# Altium schematic symbol library Resistor_0805.SchLib: 259 symbols (part 2 of 6)
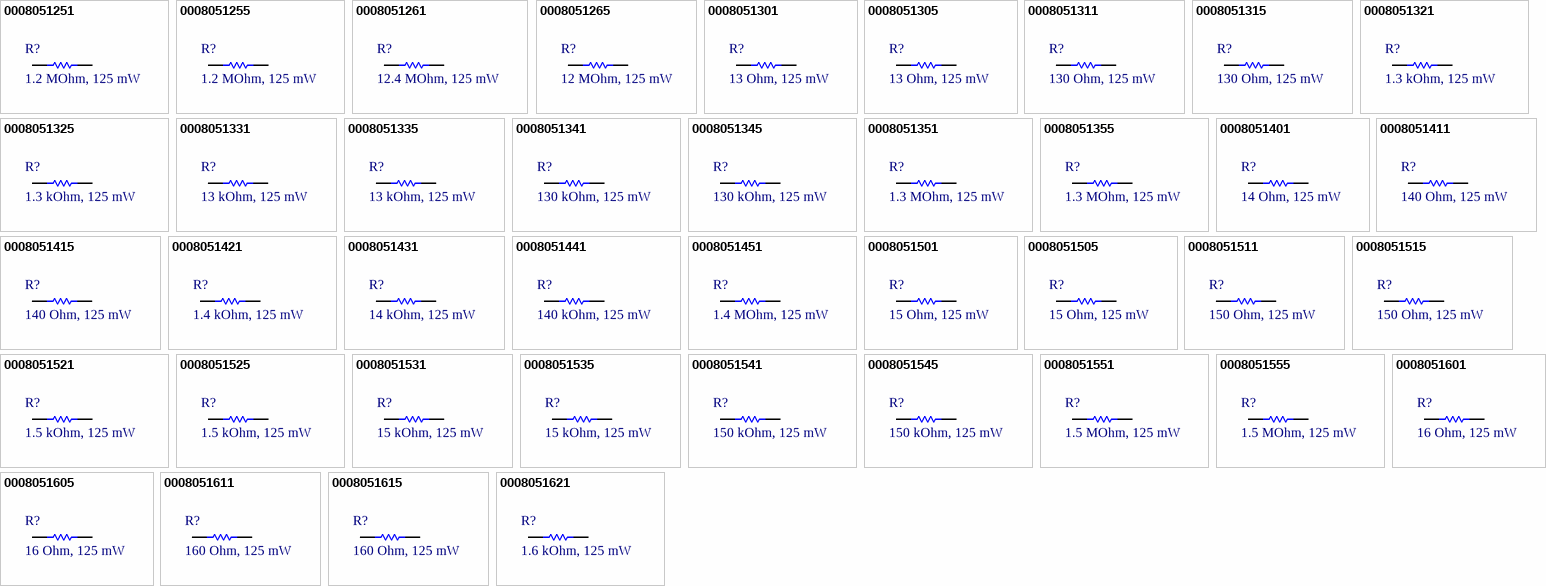
[diagram p7: symbols 0008051251 to 0008051621]

## 0008051301
designator R?, comment 13 Ohm, 125 mW
RES, size 0805, 13 Ohm, 1/8 W, 1%; Manufacturer: Vishay Dale; Manufacturer Part Number: CRCW080513R0FKEA; Rated Power: 125 mW; Resistance: 13 Ohm; Value: 13 Ohm; Tolerance: +/-1%; Supplier 1 URL: https://www.mouser.vn/ProductDetail/Vishay-Dale/CRCW080513R0FKTA?qs=ZOFh%252BZEbFTD7SfeHjm78bA%3D%3D; Supplier 2 URL: https://www.digikey.com/en/products/detail/vishay-dale/CRCW080513R0FKEA/1175421; Supplier 3 URL: https://www.mouser.vn/ProductDetail/Vishay-Dale/CRCW080513R0FKTA?qs=ZOFh%252BZEbFTD7SfeHjm78bA%3D%3D; Packaging: Tape and Reel; Supplier 1: Mouser; Supplier 1 Part Number: 71-CRCW0805-13; Supplier 2: Digi-Key; Supplier 2 Part Number: 541-13.0CTR-ND; Supplier 3: thegioiic; Supplier 3 Part Number: OEM; ComponentLink1Description: Datasheet; ComponentLink1URL: https://www.vishay.com/docs/20035/dcrcwe3.pdf; Mount: SMD/SMT; Operating Temperature Max: + 85 C; Operating Temperature Min: - 40 C; Package / Case: 0805; LCSC Part #: N/A
footprint RES_0805 (Chip Resistor, 2-Leads, Body 2.05x1.25mm, IPC Medium Density)
simulation model R_Resistor_Default (Model Description)
signal-integrity model Resistor Model
pins: 1, 2

## 0008051305
designator R?, comment 13 Ohm, 125 mW
RES, size 0805, 13 Ohm, 1/8 W, 5%; Manufacturer: Vishay Dale; Manufacturer Part Number: CRCW080513R0JNEA; Rated Power: 125 mW; Resistance: 13 Ohm; Value: 13 Ohm; Tolerance: +/-5%; Supplier 1 URL: https://www.mouser.vn/ProductDetail/Vishay-Dale/CRCW080513R0JNEA?qs=0y7Riw94L4g6KLaYV7LaYA%3D%3D; Supplier 2 URL: https://www.digikey.com/en/products/detail/vishay-dale/CRCW080513R0JNEA/1175153; Supplier 3 URL: https://www.thegioiic.com/dien-tro-13-ohm-0805-5-; Packaging: Tape and Reel; Supplier 1: Mouser; Supplier 1 Part Number: 71-CRCW080513R0JNEA; Supplier 2: Digi-Key; Supplier 2 Part Number: 541-13.0CTR-ND; Supplier 3: thegioiic; Supplier 3 Part Number: OEM; ComponentLink1Description: Datasheet; ComponentLink1URL: https://www.vishay.com/docs/20035/dcrcwe3.pdf; Mount: SMD/SMT; Operating Temperature Max: + 85 C; Operating Temperature Min: - 40 C; Package / Case: 0805; LCSC Part #: N/A
footprint RES_0805 (Chip Resistor, 2-Leads, Body 2.05x1.25mm, IPC Medium Density)
simulation model R_Resistor_Default (Model Description)
signal-integrity model Resistor Model
pins: 1, 2

## 0008051311
designator R?, comment 130 Ohm, 125 mW
RES, size 0805, 130 Ohm, 1/8 W, 1%; Manufacturer: Vishay Dale; Manufacturer Part Number: CRCW0805130RFKEA; Rated Power: 125 mW; Resistance: 130 Ohm; Value: 130 Ohm; Tolerance: +/-1%; Supplier 1 URL: https://www.mouser.vn/ProductDetail/Vishay-Dale/CRCW0805130RFKTA?qs=giVM%252B3aTMKxKqHz68BaXog%3D%3D; Supplier 2 URL: https://www.digikey.com/en/products/detail/vishay-dale/CRCW0805130RFKEA/1175535; Supplier 3 URL: N/A; Packaging: Tape and Reel; Supplier 1: Mouser; Supplier 1 Part Number: 71-CRCW0805-130; Supplier 2: Digi-Key; Supplier 2 Part Number: 541-130CTR-ND; Supplier 3: thegioiic; Supplier 3 Part Number: OEM; ComponentLink1Description: Datasheet; ComponentLink1URL: https://www.vishay.com/docs/20035/dcrcwe3.pdf; Mount: SMD/SMT; Operating Temperature Max: + 85 C; Operating Temperature Min: - 40 C; Package / Case: 0805; LCSC Part #: N/A
footprint RES_0805 (Chip Resistor, 2-Leads, Body 2.05x1.25mm, IPC Medium Density)
simulation model R_Resistor_Default (Model Description)
signal-integrity model Resistor Model
pins: 1, 2

## 0008051315
designator R?, comment 130 Ohm, 125 mW
RES, size 0805, 130 Ohm, 1/8 W, 5%; Manufacturer: Vishay Dale; Manufacturer Part Number: CRCW0805130RFKEA; Rated Power: 125 mW; Resistance: 130 Ohm; Value: 130 Ohm; Tolerance: +/-5%; Supplier 1 URL: https://www.mouser.vn/ProductDetail/Vishay-Dale/CRCW0805130RJNEA?qs=0y7Riw94L4hSzyuZjO1BEg%3D%3D; Supplier 2 URL: https://www.digikey.com/en/products/detail/vishay-dale/CRCW0805130RJNEA/1175177; Supplier 3 URL: https://www.thegioiic.com/dien-tro-130-ohm-0805-5; Packaging: Tape and Reel; Supplier 1: Mouser; Supplier 1 Part Number: 71-CRCW0805130RJNEA; Supplier 2: Digi-Key; Supplier 2 Part Number: 541-130ATR-ND; Supplier 3: thegioiic; Supplier 3 Part Number: OEM; ComponentLink1Description: Datasheet; ComponentLink1URL: https://www.vishay.com/docs/20035/dcrcwe3.pdf; Mount: SMD/SMT; Operating Temperature Max: + 85 C; Operating Temperature Min: - 40 C; Package / Case: 0805; LCSC Part #: N/A
footprint RES_0805 (Chip Resistor, 2-Leads, Body 2.05x1.25mm, IPC Medium Density)
simulation model R_Resistor_Default (Model Description)
signal-integrity model Resistor Model
pins: 1, 2

## 0008051321
designator R?, comment 1.3 kOhm, 125 mW
RES, size 0805, 1.3 kOhm, 1/8 W, 1%; Manufacturer: Vishay Dale; Manufacturer Part Number: CRCW08051K30FKEA; Rated Power: 125 mW; Tolerance: +/-1%; Resistance: 1.3 kOhm; Supplier 1 URL: https://www.mouser.vn/ProductDetail/Vishay-Dale/CRCW08051K30FKEA?qs=DZvKvnD5UYWy1USUvWuhZQ%3D%3D; Supplier 2 URL: https://www.digikey.com/en/products/detail/vishay-dale/CRCW08051K30FKEA/1175649; Supplier 3 URL: N/A; Value: 1.3 kOhm; Packaging: Tape and Reel; Supplier 1: Mouser; Supplier 1 Part Number: 71-CRCW0805-1.3K-E3; Supplier 2: Digi-Key; Supplier 2 Part Number: 541-1.30KCTR-ND; Supplier 3: thegioiic; Supplier 3 Part Number: OEM; ComponentLink1Description: Datasheet; ComponentLink1URL: https://www.vishay.com/docs/20035/dcrcwe3.pdf; Mount: SMD/SMT; Operating Temperature Max: + 85 C; Operating Temperature Min: - 40 C; Package / Case: 0805; LCSC Part #: N/A
footprint RES_0805 (Chip Resistor, 2-Leads, Body 2.05x1.25mm, IPC Medium Density)
simulation model R_Resistor_Default (Model Description)
signal-integrity model Resistor Model
pins: 1, 2

## 0008051325
designator R?, comment 1.3 kOhm, 125 mW
RES, size 0805, 1.3 kOhm, 1/8 W, 5%; Manufacturer: Vishay Dale; Manufacturer Part Number: CRCW08051K30JNEA; Rated Power: 125 mW; Tolerance: +/-5%; Resistance: 1.3 kOhm; Supplier 1 URL: https://www.mouser.vn/ProductDetail/Vishay-Dale/CRCW08051K30JNEA?qs=DZvKvnD5UYXM63M39f9SOw%3D%3D; Supplier 2 URL: https://www.digikey.com/en/products/detail/vishay-dale/CRCW08051K30JNEA/1175201; Supplier 3 URL: https://www.thegioiic.com/dien-tro-1-3-kohm-0805-5; Value: 1.3 kOhm; Packaging: Tape and Reel; Supplier 1: Mouser; Supplier 1 Part Number: 71-CRCW08051K30JNEA; Supplier 2: Digi-Key; Supplier 2 Part Number: 541-1.3KATR-ND; Supplier 3: thegioiic; Supplier 3 Part Number: OEM; ComponentLink1Description: Datasheet; ComponentLink1URL: https://www.vishay.com/docs/20035/dcrcwe3.pdf; Mount: SMD/SMT; Operating Temperature Max: + 85 C; Operating Temperature Min: - 40 C; Package / Case: 0805; LCSC Part #: N/A
footprint RES_0805 (Chip Resistor, 2-Leads, Body 2.05x1.25mm, IPC Medium Density)
simulation model R_Resistor_Default (Model Description)
signal-integrity model Resistor Model
pins: 1, 2

## 0008051331
designator R?, comment 13 kOhm, 125 mW
RES, size 0805, 13 kOhm, 1/8 W, 1%; Manufacturer: Vishay Dale; Manufacturer Part Number: CRCW080513K0FKEA; Rated Power: 125 mW; Resistance: 13 kOhm; Value: 13 kOhm; Tolerance: +/-1%; Supplier 1 URL: https://www.mouser.vn/ProductDetail/Vishay-Dale/CRCW080513K0FKEAC?qs=E3Y5ESvWgWPE3tvm%252BBlG8w%3D%3D; Supplier 2 URL: https://www.digikey.com/en/products/detail/vishay-dale/CRCW080513K0FKEA/1175763; Supplier 3 URL: https://www.mouser.vn/ProductDetail/Vishay-Dale/CRCW08051K30FKEA?qs=DZvKvnD5UYWy1USUvWuhZQ%3D%3D; Packaging: Tape and Reel; Supplier 1: Mouser; Supplier 1 Part Number: 71-CRCW080513K0FKEAC; Supplier 2: Digi-Key; Supplier 2 Part Number: 541-13.0KCTR-ND; Supplier 3: thegioiic; Supplier 3 Part Number: OEM; ComponentLink1Description: Datasheet; ComponentLink1URL: https://www.vishay.com/docs/20035/dcrcwe3.pdf; Mount: SMD/SMT; Operating Temperature Max: + 85 C; Operating Temperature Min: - 40 C; Package / Case: 0805; LCSC Part #: N/A
footprint RES_0805 (Chip Resistor, 2-Leads, Body 2.05x1.25mm, IPC Medium Density)
simulation model R_Resistor_Default (Model Description)
signal-integrity model Resistor Model
pins: 1, 2

## 0008051335
designator R?, comment 13 kOhm, 125 mW
RES, size 0805, 13 kOhm, 1/8 W, 5%; Manufacturer: Vishay Dale; Manufacturer Part Number: CRCW080513K0JNEA; Rated Power: 125 mW; Resistance: 13 kOhm; Value: 13 kOhm; Tolerance: +/-5%; Supplier 1 URL: https://www.mouser.vn/ProductDetail/Vishay-Dale/CRCW080513K0JNEA?qs=0y7Riw94L4jwZQ%2FJsMqPzw%3D%3D; Supplier 2 URL: https://www.digikey.com/en/products/detail/vishay-dale/CRCW080513K0JNEA/1175225; Supplier 3 URL: https://www.thegioiic.com/dien-tro-13-kohm-0805-5; Packaging: Tape and Reel; Supplier 1: Mouser; Supplier 1 Part Number: 71-CRCW080513K0JNEA; Supplier 2: Digi-Key; Supplier 2 Part Number: 541-13KATR-ND; Supplier 3: thegioiic; Supplier 3 Part Number: OEM; ComponentLink1Description: Datasheet; ComponentLink1URL: https://www.vishay.com/docs/20035/dcrcwe3.pdf; Mount: SMD/SMT; Operating Temperature Max: + 85 C; Operating Temperature Min: - 40 C; Package / Case: 0805; LCSC Part #: N/A
footprint RES_0805 (Chip Resistor, 2-Leads, Body 2.05x1.25mm, IPC Medium Density)
simulation model R_Resistor_Default (Model Description)
signal-integrity model Resistor Model
pins: 1, 2

## 0008051341
designator R?, comment 130 kOhm, 125 mW
RES, size 0805, 130 kOhm, 1/8 W, 1%; Manufacturer: Vishay Dale; Manufacturer Part Number: CRCW0805130KFKEAC; Rated Power: 125 mW; Tolerance: +/-1%; Resistance: 130 kOhm; Supplier 1 URL: https://www.mouser.vn/ProductDetail/Vishay-Dale/CRCW0805130KFKEA?qs=0y7Riw94L4iHKWUxGOctIA%3D%3D; Supplier 2 URL: https://www.digikey.com/en/products/detail/vishay-dale/CRCW0805130KFKEAC/7922604; Supplier 3 URL: https://www.thegioiic.com/dien-tro-133-kohm-0805-1-; Value: 130 kOhm; Packaging: Tape and Reel; Supplier 1: Mouser; Supplier 1 Part Number: 71-CRCW0805-130K-E3; Supplier 2: Digi-Key; Supplier 2 Part Number: 541-CRCW0805130KFKEACTR-ND; Supplier 3: thegioiic; Supplier 3 Part Number: OEM; ComponentLink1Description: Datasheet; ComponentLink1URL: https://www.vishay.com/docs/28773/crcwce3.pdf; Mount: SMD/SMT; Operating Temperature Max: + 85 C; Operating Temperature Min: - 40 C; Package / Case: 0805; LCSC Part #: N/A
footprint RES_0805 (Chip Resistor, 2-Leads, Body 2.05x1.25mm, IPC Medium Density)
simulation model R_Resistor_Default (Model Description)
signal-integrity model Resistor Model
pins: 1, 2

## 0008051345
designator R?, comment 130 kOhm, 125 mW
RES, size 0805, 130 kOhm, 1/8 W, 5%; Manufacturer: Vishay Dale; Manufacturer Part Number: CRCW0805130KJNEA; Rated Power: 125 mW; Tolerance: +/-5%; Resistance: 130 kOhm; Supplier 1 URL: https://www.mouser.vn/ProductDetail/Vishay-Dale/CRCW0805130KJNEA?qs=0y7Riw94L4hrk%2FEo6puJGw%3D%3D; Supplier 2 URL: https://www.digikey.com/en/products/detail/vishay-dale/CRCW0805130KJNEA/1175249; Supplier 3 URL: https://www.thegioiic.com/dien-tro-130-kohm-0805-5; Value: 130 kOhm; Packaging: Tape and Reel; Supplier 1: Mouser; Supplier 1 Part Number: 71-CRCW0805130KJNEA; Supplier 2: Digi-Key; Supplier 2 Part Number: 541-130KATR-ND; Supplier 3: thegioiic; Supplier 3 Part Number: OEM; ComponentLink1Description: Datasheet; ComponentLink1URL: https://www.vishay.com/docs/20035/dcrcwe3.pdf; Mount: SMD/SMT; Operating Temperature Max: + 85 C; Operating Temperature Min: - 40 C; Package / Case: 0805; LCSC Part #: N/A
footprint RES_0805 (Chip Resistor, 2-Leads, Body 2.05x1.25mm, IPC Medium Density)
simulation model R_Resistor_Default (Model Description)
signal-integrity model Resistor Model
pins: 1, 2

## 0008051351
designator R?, comment 1.3 MOhm, 125 mW
RES, size 0805, 1.3 MOhm, 1/8 W, 1%; Manufacturer: Vishay Dale; Manufacturer Part Number: CRCW08051M30FKEA; Rated Power: 125 mW; Tolerance: +/-1%; Resistance: 1.3 MOhm; Supplier 1 URL: https://www.mouser.vn/ProductDetail/Vishay-Dale/CRCW08051M30FKEA?qs=1CkV0QOCgMqfDDw%2F4HOy0g%3D%3D; Supplier 2 URL: https://www.digikey.com/en/products/detail/vishay-dale/CRCW08051M30FKEA/1176028; Supplier 3 URL: N/A; Value: 1.3 MOhm; Packaging: Tape and Reel; Supplier 1: Mouser; Supplier 1 Part Number: 71-CRCW08051M30FKEA; Supplier 2: Digi-Key; Supplier 2 Part Number: 541-1.30MCTR-ND; Supplier 3: thegioiic; Supplier 3 Part Number: OEM; ComponentLink1Description: Datasheet; ComponentLink1URL: https://www.vishay.com/docs/20035/dcrcwe3.pdf; Mount: SMD/SMT; Operating Temperature Max: + 85 C; Operating Temperature Min: - 40 C; Package / Case: 0805; LCSC Part #: N/A
footprint RES_0805 (Chip Resistor, 2-Leads, Body 2.05x1.25mm, IPC Medium Density)
simulation model R_Resistor_Default (Model Description)
signal-integrity model Resistor Model
pins: 1, 2

## 0008051355
designator R?, comment 1.3 MOhm, 125 mW
RES, size 0805, 1.3 MOhm, 1/8 W, 5%; Manufacturer: Vishay Dale; Manufacturer Part Number: CRCW08051M30JNEAC; Rated Power: 125 mW; Tolerance: +/-5%; Resistance: 1.3 MOhm; Supplier 1 URL: https://www.mouser.vn/ProductDetail/Vishay-Dale/CRCW08051M30JNEA?qs=1CkV0QOCgMqStvDAyUDctQ%3D%3D; Supplier 2 URL: https://www.digikey.com/en/products/detail/vishay-dale/CRCW08051M30JNEAC/7923851; Supplier 3 URL: https://www.thegioiic.com/dien-tro-1-3-mohm-0805-5; Value: 1.3 MOhm; Packaging: Tape and Reel; Supplier 1: Mouser; Supplier 1 Part Number: 71-CRCW08051M30JNEA; Supplier 2: Digi-Key; Supplier 2 Part Number: CRCW08051M30JNEAC-ND; Supplier 3: thegioiic; Supplier 3 Part Number: OEM; ComponentLink1Description: Datasheet; ComponentLink1URL: https://www.vishay.com/docs/28773/crcwce3.pdf; Mount: SMD/SMT; Operating Temperature Max: + 85 C; Operating Temperature Min: - 40 C; Package / Case: 0805; LCSC Part #: N/A
footprint RES_0805 (Chip Resistor, 2-Leads, Body 2.05x1.25mm, IPC Medium Density)
simulation model R_Resistor_Default (Model Description)
signal-integrity model Resistor Model
pins: 1, 2

## 0008051401
designator R?, comment 14 Ohm, 125 mW
RES, size 0805, 14 Ohm, 1/8 W, 1%; Manufacturer: Vishay Dale; Manufacturer Part Number: CRCW080514R0FKEA; Rated Power: 125 mW; Resistance: 14 Ohm; Value: 14 Ohm; Tolerance: +/-1%; Supplier 1 URL: https://www.mouser.vn/ProductDetail/Vishay-Dale/CRCW080514R0FKEA?qs=bMjB6bAaLENYJ14k%252BREMxw%3D%3D; Supplier 2 URL: https://www.digikey.com/en/products/detail/vishay-dale/CRCW080514R0FKEA/1175424; Supplier 3 URL: N/A; Packaging: Tape and Reel; Supplier 1: Mouser; Supplier 1 Part Number: 71-CRCW080514R0FKEA; Supplier 2: Digi-Key; Supplier 2 Part Number: 541-14.0CTR-ND; Supplier 3: thegioiic; Supplier 3 Part Number: OEM; ComponentLink1Description: Datasheet; ComponentLink1URL: https://www.vishay.com/docs/20035/dcrcwe3.pdf; Mount: SMD/SMT; Operating Temperature Max: + 85 C; Operating Temperature Min: - 40 C; Package / Case: 0805; LCSC Part #: N/A
footprint RES_0805 (Chip Resistor, 2-Leads, Body 2.05x1.25mm, IPC Medium Density)
simulation model R_Resistor_Default (Model Description)
signal-integrity model Resistor Model
pins: 1, 2

## 0008051411
designator R?, comment 140 Ohm, 125 mW
RES, size 0805, 140 Ohm, 1/8 W, 1%; Manufacturer: Vishay Dale; Manufacturer Part Number: CRCW0805140RFKEA; Rated Power: 125 mW; Resistance: 140 Ohm; Value: 140 Ohm; Tolerance: +/-1%; Supplier 1 URL: https://www.mouser.vn/ProductDetail/Vishay-Dale/CRCW0805140RFKEA?qs=0y7Riw94L4jPO4%252BnYwmRgg%3D%3D; Supplier 2 URL: https://www.digikey.com/en/products/detail/vishay-dale/CRCW0805140RFKEA/1175538; Supplier 3 URL: N/A; Packaging: Tape and Reel; Supplier 1: Mouser; Supplier 1 Part Number: 71-CRCW0805-140-E3; Supplier 2: Digi-Key; Supplier 2 Part Number: 541-140CTR-ND; Supplier 3: thegioiic; Supplier 3 Part Number: OEM; ComponentLink1Description: Datasheet; ComponentLink1URL: https://www.vishay.com/docs/20035/dcrcwe3.pdf; Mount: SMD/SMT; Operating Temperature Max: + 85 C; Operating Temperature Min: - 40 C; Package / Case: 0805; LCSC Part #: N/A
footprint RES_0805 (Chip Resistor, 2-Leads, Body 2.05x1.25mm, IPC Medium Density)
simulation model R_Resistor_Default (Model Description)
signal-integrity model Resistor Model
pins: 1, 2

## 0008051415
designator R?, comment 140 Ohm, 125 mW
RES, size 0805, 140 Ohm, 1/8 W, 5%; Manufacturer: Vishay Dale; Manufacturer Part Number: CRCW0805140RJNTA; Rated Power: 125 mW; Resistance: 140 Ohm; Value: 140 Ohm; Tolerance: +/-5%; Supplier 1 URL: N/A; Supplier 2 URL: https://www.digikey.com/en/products/detail/vishay-dale/CRCW0805140RJNTA/5073823?s=N4IgjCBcoExaBjKAzAhgGwM4FMA0IB7KAbXAAYAOAdgE4QBdfABwBcoQBlFgJwEsA7AOYgAvvgDM8EEkhoseQiRAwArGUmMQrdlz5DR%2BMDBoRo0lBhz4ikUuJriYFBszaROPAcLHLKKqTJyVoq24AAsZAAEAPIAFgC2mC5abiAAqvy8LNHIALLYqJgArtzYBiAAtKaIFvLWSiphEPQirUA; Supplier 3 URL: N/A; Packaging: Tape and Reel; Supplier 1: Mouser; Supplier 1 Part Number: N/A; Supplier 2: Digi-Key; Supplier 2 Part Number: CRCW0805140RJNTA-ND; Supplier 3: thegioiic; Supplier 3 Part Number: OEM; ComponentLink1Description: Datasheet; ComponentLink1URL: https://www.vishay.com/docs/20008/dcrcw.pdf; Mount: SMD/SMT; Operating Temperature Max: + 85 C; Operating Temperature Min: - 40 C; Package / Case: 0805; LCSC Part #: N/A
footprint RES_0805 (Chip Resistor, 2-Leads, Body 2.05x1.25mm, IPC Medium Density)
simulation model R_Resistor_Default (Model Description)
signal-integrity model Resistor Model
pins: 1, 2

## 0008051421
designator R?, comment 1.4 kOhm, 125 mW
RES, size 0805, 1.4 kOhm, 1/8 W, 1%; Manufacturer: Vishay Dale; Manufacturer Part Number: CRCW08051K40FKEA; Rated Power: 125 mW; Tolerance: +/-1%; Resistance: 1.4 kOhm; Supplier 1 URL: https://www.mouser.vn/ProductDetail/Vishay-Dale/CRCW08051K40FKEAC?qs=E3Y5ESvWgWMroF%2FACx5xCA%3D%3D; Supplier 2 URL: https://www.digikey.com/en/products/detail/vishay-dale/CRCW08051K40FKEA/1175652; Supplier 3 URL: N/A; Value: 1.4 kOhm; Packaging: Tape and Reel; Supplier 1: Mouser; Supplier 1 Part Number: 71-CRCW08051K40FKEAC; Supplier 2: Digi-Key; Supplier 2 Part Number: 541-1.40KCTR-ND; Supplier 3: thegioiic; Supplier 3 Part Number: OEM; ComponentLink1Description: Datasheet; ComponentLink1URL: https://www.vishay.com/docs/20035/dcrcwe3.pdf; Mount: SMD/SMT; Operating Temperature Max: + 85 C; Operating Temperature Min: - 40 C; Package / Case: 0805; LCSC Part #: N/A
footprint RES_0805 (Chip Resistor, 2-Leads, Body 2.05x1.25mm, IPC Medium Density)
simulation model R_Resistor_Default (Model Description)
signal-integrity model Resistor Model
pins: 1, 2

## 0008051431
designator R?, comment 14 kOhm, 125 mW
RES, size 0805, 14 kOhm, 1/8 W, 1%; Manufacturer: Vishay Dale; Manufacturer Part Number: CRCW080514K0FKEA; Rated Power: 125 mW; Resistance: 14 kOhm; Value: 14 kOhm; Tolerance: +/-1%; Supplier 1 URL: https://www.mouser.vn/ProductDetail/Vishay-Dale/CRCW080514K0FKTA?qs=y%252BxuShyeZ0O8roe3MhXm6Q%3D%3D; Supplier 2 URL: https://www.digikey.com/en/products/detail/vishay-dale/CRCW080514K0FKEA/1175766; Supplier 3 URL: N/A; Packaging: Tape and Reel; Supplier 1: Mouser; Supplier 1 Part Number: 71-CRCW0805-14K; Supplier 2: Digi-Key; Supplier 2 Part Number: 541-14.0KCTR-ND; Supplier 3: thegioiic; Supplier 3 Part Number: OEM; ComponentLink1Description: Datasheet; ComponentLink1URL: https://www.vishay.com/docs/20035/dcrcwe3.pdf; Mount: SMD/SMT; Operating Temperature Max: + 85 C; Operating Temperature Min: - 40 C; Package / Case: 0805; LCSC Part #: N/A
footprint RES_0805 (Chip Resistor, 2-Leads, Body 2.05x1.25mm, IPC Medium Density)
simulation model R_Resistor_Default (Model Description)
signal-integrity model Resistor Model
pins: 1, 2

## 0008051441
designator R?, comment 140 kOhm, 125 mW
RES, size 0805, 140 kOhm, 1/8 W, 1%; Manufacturer: Vishay Dale; Manufacturer Part Number: CRCW0805140KFKEA; Rated Power: 125 mW; Tolerance: +/-1%; Resistance: 140 kOhm; Supplier 1 URL: https://www.mouser.vn/ProductDetail/Vishay-Dale/CRCW0805140KFKEA?qs=0y7Riw94L4gtbV%2FoXTvwTw%3D%3D; Supplier 2 URL: https://www.digikey.com/en/products/detail/vishay-dale/CRCW0805140KFKEA/1175880; Supplier 3 URL: N/A; Value: 140 kOhm; Packaging: Tape and Reel; Supplier 1: Mouser; Supplier 1 Part Number: 71-CRCW0805-140K-E3; Supplier 2: Digi-Key; Supplier 2 Part Number: 541-140KCTR-ND; Supplier 3: thegioiic; Supplier 3 Part Number: OEM; ComponentLink1Description: Datasheet; ComponentLink1URL: https://www.vishay.com/docs/20035/dcrcwe3.pdf; Mount: SMD/SMT; Operating Temperature Max: + 85 C; Operating Temperature Min: - 40 C; Package / Case: 0805; LCSC Part #: N/A
footprint RES_0805 (Chip Resistor, 2-Leads, Body 2.05x1.25mm, IPC Medium Density)
simulation model R_Resistor_Default (Model Description)
signal-integrity model Resistor Model
pins: 1, 2

## 0008051451
designator R?, comment 1.4 MOhm, 125 mW
RES, size 0805, 1.4 MOhm, 1/8 W, 1%; Manufacturer: Vishay Dale; Manufacturer Part Number: CRCW08051M40FKEA; Rated Power: 125 mW; Tolerance: +/-1%; Resistance: 1.4 MOhm; Supplier 1 URL: https://www.mouser.vn/ProductDetail/Vishay-Dale/CRCW08051M40FKEA?qs=1CkV0QOCgMrnDZ6HKgVapA%3D%3D; Supplier 2 URL: https://www.digikey.com/en/products/detail/vishay-dale/CRCW08051M40FKEA/1176031; Supplier 3 URL: N/A; Value: 1.4 MOhm; Packaging: Tape and Reel; Supplier 1: Mouser; Supplier 1 Part Number: 71-CRCW08051M40FKEA; Supplier 2: Digi-Key; Supplier 2 Part Number: 541-1.40MCTR-ND; Supplier 3: thegioiic; Supplier 3 Part Number: OEM; ComponentLink1Description: Datasheet; ComponentLink1URL: https://www.vishay.com/docs/20035/dcrcwe3.pdf; Mount: SMD/SMT; Operating Temperature Max: + 85 C; Operating Temperature Min: - 40 C; Package / Case: 0805; LCSC Part #: N/A
footprint RES_0805 (Chip Resistor, 2-Leads, Body 2.05x1.25mm, IPC Medium Density)
simulation model R_Resistor_Default (Model Description)
signal-integrity model Resistor Model
pins: 1, 2

## 0008051501
designator R?, comment 15 Ohm, 125 mW
RES, size 0805, 15 Ohm, 1/8 W, 1%; Manufacturer: Vishay Dale; Manufacturer Part Number: CRCW080515R0FKEB; Rated Power: 125 mW; Resistance: 15 Ohm; Value: 15 Ohm; Tolerance: +/-1%; Supplier 1 URL: https://www.mouser.vn/ProductDetail/Vishay-Dale/CRCW080515R0FKEAC?qs=E3Y5ESvWgWM44NF3DwTdDQ%3D%3D; Supplier 2 URL: https://www.digikey.com/en/products/detail/vishay-dale/CRCW080515R0FKEB/5073898; Supplier 3 URL: https://www.mouser.vn/ProductDetail/Vishay-Dale/CRCW080514R0FKEA?qs=bMjB6bAaLENYJ14k%252BREMxw%3D%3D; Packaging: Tape and Reel; Supplier 1: Mouser; Supplier 1 Part Number: 71-CRCW080515R0FKEAC; Supplier 2: Digi-Key; Supplier 2 Part Number: 541-CRCW080515R0FKEBTR-ND; Supplier 3: thegioiic; Supplier 3 Part Number: OEM; ComponentLink1Description: Datasheet; ComponentLink1URL: https://www.vishay.com/docs/20035/dcrcwe3.pdf; Mount: SMD/SMT; Operating Temperature Max: + 85 C; Operating Temperature Min: - 40 C; Package / Case: 0805; LCSC Part #: N/A
footprint RES_0805 (Chip Resistor, 2-Leads, Body 2.05x1.25mm, IPC Medium Density)
simulation model R_Resistor_Default (Model Description)
signal-integrity model Resistor Model
pins: 1, 2

## 0008051505
designator R?, comment 15 Ohm, 125 mW
RES, size 0805, 15 Ohm, 1/8 W, 5%; Manufacturer: Vishay Dale; Manufacturer Part Number: CRCW080515R0JNEA; Rated Power: 125 mW; Resistance: 15 Ohm; Value: 15 Ohm; Tolerance: +/-5%; Supplier 1 URL: https://www.mouser.vn/ProductDetail/Vishay-Dale/CRCW080515R0JNTA?qs=7lMtFQ21GD%2Fy1G9yTvj1Dg%3D%3D; Supplier 2 URL: https://www.digikey.com/en/products/detail/vishay-dale/CRCW080515R0JNEA/1175154; Supplier 3 URL: https://www.thegioiic.com/dien-tro-15-ohm-0805-5-; Packaging: Tape and Reel; Supplier 1: Mouser; Supplier 1 Part Number: 71-CRCW0805J-15; Supplier 2: Digi-Key; Supplier 2 Part Number: 541-15ATR-ND; Supplier 3: thegioiic; Supplier 3 Part Number: OEM; ComponentLink1Description: Datasheet; ComponentLink1URL: https://www.vishay.com/docs/20035/dcrcwe3.pdf; Mount: SMD/SMT; Operating Temperature Max: + 85 C; Operating Temperature Min: - 40 C; Package / Case: 0805; LCSC Part #: N/A
footprint RES_0805 (Chip Resistor, 2-Leads, Body 2.05x1.25mm, IPC Medium Density)
simulation model R_Resistor_Default (Model Description)
signal-integrity model Resistor Model
pins: 1, 2

## 0008051511
designator R?, comment 150 Ohm, 125 mW
RES, size 0805, 150 Ohm, 1/8 W, 1%; Manufacturer: Vishay Dale; Manufacturer Part Number: CRCW0805150RFKEAC; Rated Power: 125 mW; Resistance: 150 Ohm; Value: 150 Ohm; Tolerance: +/-1%; Supplier 1 URL: https://www.mouser.vn/ProductDetail/Vishay-Dale/CRCW0805150RFKEB?qs=bMjB6bAaLEOZD7oncshwRw%3D%3D; Supplier 2 URL: https://www.digikey.com/en/products/detail/vishay-dale/CRCW0805150RFKEAC/7922303; Supplier 3 URL: N/A; Packaging: Tape and Reel; Supplier 1: Mouser; Supplier 1 Part Number: 71-CRCW0805150RFKEB; Supplier 2: Digi-Key; Supplier 2 Part Number: 541-CRCW0805150RFKEACTR-ND; Supplier 3: thegioiic; Supplier 3 Part Number: OEM; ComponentLink1Description: Datasheet; ComponentLink1URL: https://www.vishay.com/docs/28773/crcwce3.pdf; Mount: SMD/SMT; Operating Temperature Max: + 85 C; Operating Temperature Min: - 40 C; Package / Case: 0805; LCSC Part #: N/A
footprint RES_0805 (Chip Resistor, 2-Leads, Body 2.05x1.25mm, IPC Medium Density)
simulation model R_Resistor_Default (Model Description)
signal-integrity model Resistor Model
pins: 1, 2

## 0008051515
designator R?, comment 150 Ohm, 125 mW
RES, size 0805, 150 Ohm, 1/8 W, 5%; Manufacturer: Vishay Dale; Manufacturer Part Number: CRCW0805150RFKEAC; Rated Power: 125 mW; Resistance: 150 Ohm; Value: 150 Ohm; Tolerance: +/-5%; Supplier 1 URL: https://www.digikey.com/en/products/detail/vishay-dale/CRCW0805150RJNEA/1175178; Supplier 2 URL: https://www.digikey.com/en/products/detail/vishay-dale/CRCW0805150RJNEA/1175178; Supplier 3 URL: https://www.thegioiic.com/dien-tro-150-ohm-0805-5; Packaging: Tape and Reel; Supplier 1: Mouser; Supplier 1 Part Number: 541-150ATR-ND; Supplier 2: Digi-Key; Supplier 2 Part Number: 541-150ATR-ND; Supplier 3: thegioiic; Supplier 3 Part Number: OEM; ComponentLink1Description: Datasheet; ComponentLink1URL: https://www.vishay.com/docs/20035/dcrcwe3.pdf; Mount: SMD/SMT; Operating Temperature Max: + 85 C; Operating Temperature Min: - 40 C; Package / Case: 0805; LCSC Part #: N/A
footprint RES_0805 (Chip Resistor, 2-Leads, Body 2.05x1.25mm, IPC Medium Density)
simulation model R_Resistor_Default (Model Description)
signal-integrity model Resistor Model
pins: 1, 2

## 0008051521
designator R?, comment 1.5 kOhm, 125 mW
RES, size 0805, 1.5 kOhm, 1/8 W, 1%; Manufacturer: Vishay Dale; Manufacturer Part Number: CRCW08051K50FKEAC; Rated Power: 125 mW; Tolerance: +/-1%; Resistance: 1.5 kOhm; Supplier 1 URL: https://www.mouser.vn/ProductDetail/Vishay-Dale/CRCW08051K50FKEA?qs=DZvKvnD5UYVo4ieimONp3Q%3D%3D; Supplier 2 URL: https://www.digikey.com/en/products/detail/vishay-dale/CRCW08051K50FKEAC/7928583; Supplier 3 URL: N/A; Value: 1.5 kOhm; Packaging: Tape and Reel; Supplier 1: Mouser; Supplier 1 Part Number: 71-CRCW0805-1.5K-E3; Supplier 2: Digi-Key; Supplier 2 Part Number: 541-4161-2-ND; Supplier 3: thegioiic; Supplier 3 Part Number: OEM; ComponentLink1Description: Datasheet; ComponentLink1URL: https://www.vishay.com/docs/28773/crcwce3.pdf; Mount: SMD/SMT; Operating Temperature Max: + 85 C; Operating Temperature Min: - 40 C; Package / Case: 0805; LCSC Part #: N/A
footprint RES_0805 (Chip Resistor, 2-Leads, Body 2.05x1.25mm, IPC Medium Density)
simulation model R_Resistor_Default (Model Description)
signal-integrity model Resistor Model
pins: 1, 2

## 0008051525
designator R?, comment 1.5 kOhm, 125 mW
RES, size 0805, 1.5 kOhm, 1/8 W, 5%; Manufacturer: Vishay Dale; Manufacturer Part Number: CRCW08051K50JNEAC; Rated Power: 125 mW; Tolerance: +/-5%; Resistance: 1.5 kOhm; Supplier 1 URL: https://www.mouser.vn/ProductDetail/Vishay-Dale/CRCW08051K50JNEA?qs=DZvKvnD5UYVu0sAToX1nWg%3D%3D; Supplier 2 URL: https://www.digikey.com/en/products/detail/vishay-dale/CRCW08051K50JNEAC/7923721; Supplier 3 URL: https://www.thegioiic.com/dien-tro-1-5-kohm-0805-5; Value: 1.5 kOhm; Packaging: Tape and Reel; Supplier 1: Mouser; Supplier 1 Part Number: 71-CRCW0805J-1.5K-E3; Supplier 2: Digi-Key; Supplier 2 Part Number: 541-CRCW08051K50JNEACTR-ND; Supplier 3: thegioiic; Supplier 3 Part Number: OEM; ComponentLink1Description: Datasheet; ComponentLink1URL: https://www.vishay.com/docs/28773/crcwce3.pdf; Mount: SMD/SMT; Operating Temperature Max: + 85 C; Operating Temperature Min: - 40 C; Package / Case: 0805; LCSC Part #: N/A
footprint RES_0805 (Chip Resistor, 2-Leads, Body 2.05x1.25mm, IPC Medium Density)
simulation model R_Resistor_Default (Model Description)
signal-integrity model Resistor Model
pins: 1, 2

## 0008051531
designator R?, comment 15 kOhm, 125 mW
RES, size 0805, 15 kOhm, 1/8 W, 1%; Manufacturer: Vishay Dale; Manufacturer Part Number: CRCW080515K0FKEAC; Rated Power: 125 mW; Resistance: 15 kOhm; Value: 15 kOhm; Tolerance: +/-1%; Supplier 1 URL: https://www.mouser.vn/ProductDetail/Vishay-Dale/CRCW080515K0FKEA?qs=bMjB6bAaLEM4rXT2DoR3BA%3D%3D; Supplier 2 URL: https://www.digikey.com/en/products/detail/vishay-dale/CRCW080515K0FKEAC/7928558; Supplier 3 URL: N/A; Packaging: Tape and Reel; Supplier 1: Mouser; Supplier 1 Part Number: 71-CRCW0805-15K-E3; Supplier 2: Digi-Key; Supplier 2 Part Number: 541-4136-2-ND; Supplier 3: thegioiic; Supplier 3 Part Number: OEM; ComponentLink1Description: Datasheet; ComponentLink1URL: https://www.vishay.com/docs/28773/crcwce3.pdf; Mount: SMD/SMT; Operating Temperature Max: + 85 C; Operating Temperature Min: - 40 C; Package / Case: 0805; LCSC Part #: N/A
footprint RES_0805 (Chip Resistor, 2-Leads, Body 2.05x1.25mm, IPC Medium Density)
simulation model R_Resistor_Default (Model Description)
signal-integrity model Resistor Model
pins: 1, 2

## 0008051535
designator R?, comment 15 kOhm, 125 mW
RES, size 0805, 15 kOhm, 1/8 W, 5%; Manufacturer: Vishay Dale; Manufacturer Part Number: CRCW080515K0JNEA; Rated Power: 125 mW; Resistance: 15 kOhm; Value: 15 kOhm; Tolerance: +/-5%; Supplier 1 URL: https://www.mouser.vn/ProductDetail/Vishay-Dale/CRCW080515K0JNEA?qs=bMjB6bAaLENV0lmPLLG8xQ%3D%3D; Supplier 2 URL: https://www.digikey.com/en/products/detail/vishay-dale/CRCW080515K0JNEA/1175226; Supplier 3 URL: https://www.thegioiic.com/dien-tro-15-kohm-0805-5; Packaging: Tape and Reel; Supplier 1: Mouser; Supplier 1 Part Number: 71-CRCW0805J-15K-E3; Supplier 2: Digi-Key; Supplier 2 Part Number: 541-15KATR-ND; Supplier 3: thegioiic; Supplier 3 Part Number: OEM; ComponentLink1Description: Datasheet; ComponentLink1URL: https://www.vishay.com/docs/20035/dcrcwe3.pdf; Mount: SMD/SMT; Operating Temperature Max: + 85 C; Operating Temperature Min: - 40 C; Package / Case: 0805; LCSC Part #: N/A
footprint RES_0805 (Chip Resistor, 2-Leads, Body 2.05x1.25mm, IPC Medium Density)
simulation model R_Resistor_Default (Model Description)
signal-integrity model Resistor Model
pins: 1, 2

## 0008051541
designator R?, comment 150 kOhm, 125 mW
RES, size 0805, 150 kOhm, 1/8 W, 1%; Manufacturer: Vishay Dale; Manufacturer Part Number: CRCW0805150KFKEAC; Rated Power: 125 mW; Tolerance: +/-1%; Resistance: 150 kOhm; Supplier 1 URL: https://www.mouser.vn/ProductDetail/Vishay-Draloric/RCV0805150KFKEA?qs=%252BZJHVReOaHoD19mGJzXQNg%3D%3D; Supplier 2 URL: https://www.digikey.com/en/products/detail/vishay-dale/CRCW0805150KFKEAC/7922326; Supplier 3 URL: https://www.vishay.com/docs/28773/crcwce3.pdf; Value: 150 kOhm; Packaging: Tape and Reel; Supplier 1: Mouser; Supplier 1 Part Number: 71-RCV0805150KFKEA; Supplier 2: Digi-Key; Supplier 2 Part Number: 541-CRCW0805150KFKEACTR-ND; Supplier 3: thegioiic; Supplier 3 Part Number: OEM; ComponentLink1Description: Datasheet; ComponentLink1URL: https://www.vishay.com/docs/28773/crcwce3.pdf; Mount: SMD/SMT; Operating Temperature Max: + 85 C; Operating Temperature Min: - 40 C; Package / Case: 0805; LCSC Part #: N/A
footprint RES_0805 (Chip Resistor, 2-Leads, Body 2.05x1.25mm, IPC Medium Density)
simulation model R_Resistor_Default (Model Description)
signal-integrity model Resistor Model
pins: 1, 2

## 0008051545
designator R?, comment 150 kOhm, 125 mW
RES, size 0805, 150 kOhm, 1/8 W, 5%; Manufacturer: Vishay Dale; Manufacturer Part Number: CRCW0805150KJNEA; Rated Power: 125 mW; Tolerance: +/-5%; Resistance: 150 kOhm; Supplier 1 URL: https://www.mouser.vn/ProductDetail/Vishay-Dale/CRCW0805150KJNEA?qs=bMjB6bAaLEMh7CXrahQqdQ%3D%3D; Supplier 2 URL: https://www.digikey.com/en/products/detail/vishay-dale/CRCW0805150KJNEA/1175250; Supplier 3 URL: https://www.thegioiic.com/dien-tro-150-kohm-0805-5; Value: 150 kOhm; Packaging: Tape and Reel; Supplier 1: Mouser; Supplier 1 Part Number: 71-CRCW0805150KJNEA; Supplier 2: Digi-Key; Supplier 2 Part Number: 541-150KATR-ND; Supplier 3: thegioiic; Supplier 3 Part Number: OEM; ComponentLink1Description: Datasheet; ComponentLink1URL: https://www.vishay.com/docs/20035/dcrcwe3.pdf; Mount: SMD/SMT; Operating Temperature Max: + 85 C; Operating Temperature Min: - 40 C; Package / Case: 0805; LCSC Part #: N/A
footprint RES_0805 (Chip Resistor, 2-Leads, Body 2.05x1.25mm, IPC Medium Density)
simulation model R_Resistor_Default (Model Description)
signal-integrity model Resistor Model
pins: 1, 2

## 0008051551
designator R?, comment 1.5 MOhm, 125 mW
RES, size 0805, 1.5 MOhm, 1/8 W, 1%; Manufacturer: Vishay Dale; Manufacturer Part Number: CRCW08051M50FKEB; Rated Power: 125 mW; Tolerance: +/-1%; Resistance: 1.5 MOhm; Supplier 1 URL: https://www.mouser.vn/ProductDetail/Vishay-Dale/CRCW08051M50FKEAC?qs=E3Y5ESvWgWPkTbMzua%252BFLg%3D%3D; Supplier 2 URL: https://www.digikey.com/en/products/detail/vishay-dale/CRCW08051M50FKEB/5074207; Supplier 3 URL: N/A; Value: 1.5 MOhm; Packaging: Tape and Reel; Supplier 1: Mouser; Supplier 1 Part Number: 71-CRCW08051M50FKEAC; Supplier 2: Digi-Key; Supplier 2 Part Number: 541-CRCW08051M50FKEBTR-ND; Supplier 3: thegioiic; Supplier 3 Part Number: OEM; ComponentLink1Description: Datasheet; ComponentLink1URL: https://www.vishay.com/docs/20035/dcrcwe3.pdf; Mount: SMD/SMT; Operating Temperature Max: + 85 C; Operating Temperature Min: - 40 C; Package / Case: 0805; LCSC Part #: N/A
footprint RES_0805 (Chip Resistor, 2-Leads, Body 2.05x1.25mm, IPC Medium Density)
simulation model R_Resistor_Default (Model Description)
signal-integrity model Resistor Model
pins: 1, 2

## 0008051555
designator R?, comment 1.5 MOhm, 125 mW
RES, size 0805, 1.5 MOhm, 1/8 W, 5%; Manufacturer: Vishay Dale; Manufacturer Part Number: CRCW08051M50JNEA; Rated Power: 125 mW; Tolerance: +/-5%; Resistance: 1.5 MOhm; Supplier 1 URL: https://www.mouser.vn/ProductDetail/Vishay-Dale/CRCW08051M50JNEA?qs=1CkV0QOCgMooXqsYWJtv9Q%3D%3D; Supplier 2 URL: https://www.digikey.com/en/products/detail/vishay-dale/CRCW08051M50JNEA/1175274; Supplier 3 URL: https://www.thegioiic.com/dien-tro-1-5-mohm-0805-5; Value: 1.5 MOhm; Packaging: Tape and Reel; Supplier 1: Mouser; Supplier 1 Part Number: 71-CRCW08051M50JNEA; Supplier 2: Digi-Key; Supplier 2 Part Number: 541-1.5MATR-ND; Supplier 3: thegioiic; Supplier 3 Part Number: OEM; ComponentLink1Description: Datasheet; ComponentLink1URL: https://www.vishay.com/docs/20035/dcrcwe3.pdf; Mount: SMD/SMT; Operating Temperature Max: + 85 C; Operating Temperature Min: - 40 C; Package / Case: 0805; LCSC Part #: N/A
footprint RES_0805 (Chip Resistor, 2-Leads, Body 2.05x1.25mm, IPC Medium Density)
simulation model R_Resistor_Default (Model Description)
signal-integrity model Resistor Model
pins: 1, 2

## 0008051601
designator R?, comment 16 Ohm, 125 mW
RES, size 0805, 16 Ohm, 1/8 W, 1%; Manufacturer: Vishay Dale; Manufacturer Part Number: CRCW080516R0FKEA; Rated Power: 125 mW; Resistance: 16 Ohm; Value: 16 Ohm; Tolerance: +/-1%; Supplier 1 URL: https://www.mouser.vn/ProductDetail/Vishay-Dale/CRCW080516R0FKEA?qs=3ySnGRKSeyR1iWFsu%2FZBpQ%3D%3D; Supplier 2 URL: https://www.digikey.com/en/products/detail/vishay-dale/CRCW080516R0FKEA/1175430; Supplier 3 URL: N/A; Packaging: Tape and Reel; Supplier 1: Mouser; Supplier 1 Part Number: 71-CRCW080516R0FKEA; Supplier 2: Digi-Key; Supplier 2 Part Number: 541-16.0CTR-ND; Supplier 3: thegioiic; Supplier 3 Part Number: OEM; ComponentLink1Description: Datasheet; ComponentLink1URL: https://www.vishay.com/docs/20035/dcrcwe3.pdf; Mount: SMD/SMT; Operating Temperature Max: + 85 C; Operating Temperature Min: - 40 C; Package / Case: 0805; LCSC Part #: N/A
footprint RES_0805 (Chip Resistor, 2-Leads, Body 2.05x1.25mm, IPC Medium Density)
simulation model R_Resistor_Default (Model Description)
signal-integrity model Resistor Model
pins: 1, 2

## 0008051605
designator R?, comment 16 Ohm, 125 mW
RES, size 0805, 16 Ohm, 1/8 W, 5%; Manufacturer: Vishay Dale; Manufacturer Part Number: CRCW080516R0JNEA; Rated Power: 125 mW; Resistance: 16 Ohm; Value: 16 Ohm; Tolerance: +/-5%; Supplier 1 URL: https://www.mouser.vn/ProductDetail/Vishay-Dale/CRCW080516R0JNEA?qs=2mNt4BZ3oPyhLk0EE%252BJFZw%3D%3D; Supplier 2 URL: https://www.digikey.com/en/products/detail/vishay-dale/CRCW080516R0JNEA/1175155; Supplier 3 URL: https://www.thegioiic.com/dien-tro-16-ohm-0805-5-; Packaging: Tape and Reel; Supplier 1: Mouser; Supplier 1 Part Number: 71-CRCW080516R0JNEA; Supplier 2: Digi-Key; Supplier 2 Part Number: 541-16ATR-ND; Supplier 3: thegioiic; Supplier 3 Part Number: OEM; ComponentLink1Description: Datasheet; ComponentLink1URL: https://www.vishay.com/docs/20035/dcrcwe3.pdf; Mount: SMD/SMT; Operating Temperature Max: + 85 C; Operating Temperature Min: - 40 C; Package / Case: 0805; LCSC Part #: N/A
footprint RES_0805 (Chip Resistor, 2-Leads, Body 2.05x1.25mm, IPC Medium Density)
simulation model R_Resistor_Default (Model Description)
signal-integrity model Resistor Model
pins: 1, 2

## 0008051611
designator R?, comment 160 Ohm, 125 mW
RES, size 0805, 160 Ohm, 1/8 W, 1%; Manufacturer: Vishay Dale; Manufacturer Part Number: CRCW0805160RFKEA; Rated Power: 125 mW; Resistance: 160 Ohm; Value: 160 Ohm; Tolerance: +/-1%; Supplier 1 URL: https://www.mouser.vn/ProductDetail/Vishay-Dale/CRCW0805160RFKTA?qs=gDaCAY0XVXFAHdJsLcN14A%3D%3D; Supplier 2 URL: https://www.digikey.com/en/products/detail/vishay-dale/CRCW0805160RFKEA/1175544; Supplier 3 URL: N/A; Packaging: Tape and Reel; Supplier 1: Mouser; Supplier 1 Part Number: 71-CRCW0805-160; Supplier 2: Digi-Key; Supplier 2 Part Number: 541-160CTR-ND; Supplier 3: thegioiic; Supplier 3 Part Number: OEM; ComponentLink1Description: Datasheet; ComponentLink1URL: https://www.vishay.com/docs/20035/dcrcwe3.pdf; Mount: SMD/SMT; Operating Temperature Max: + 85 C; Operating Temperature Min: - 40 C; Package / Case: 0805; LCSC Part #: N/A
footprint RES_0805 (Chip Resistor, 2-Leads, Body 2.05x1.25mm, IPC Medium Density)
simulation model R_Resistor_Default (Model Description)
signal-integrity model Resistor Model
pins: 1, 2

## 0008051615
designator R?, comment 160 Ohm, 125 mW
RES, size 0805, 160 Ohm, 1/8 W, 5%; Manufacturer: Vishay Dale; Manufacturer Part Number: CRCW0805160RJNEA; Rated Power: 125 mW; Resistance: 160 Ohm; Value: 160 Ohm; Tolerance: +/-5%; Supplier 1 URL: https://www.mouser.vn/ProductDetail/Vishay-Dale/CRCW0805160RJNEA?qs=bMjB6bAaLEPyPBo8gbRxtw%3D%3D; Supplier 2 URL: https://www.digikey.com/en/products/detail/vishay-dale/CRCW0805160RJNEA/1175179; Supplier 3 URL: https://www.thegioiic.com/dien-tro-160-ohm-0805-5; Packaging: Tape and Reel; Supplier 1: Mouser; Supplier 1 Part Number: 71-CRCW0805160RJNEA; Supplier 2: Digi-Key; Supplier 2 Part Number: 541-160ATR-ND; Supplier 3: thegioiic; Supplier 3 Part Number: OEM; ComponentLink1Description: Datasheet; ComponentLink1URL: https://www.vishay.com/docs/20035/dcrcwe3.pdf; Mount: SMD/SMT; Operating Temperature Max: + 85 C; Operating Temperature Min: - 40 C; Package / Case: 0805; LCSC Part #: N/A
footprint RES_0805 (Chip Resistor, 2-Leads, Body 2.05x1.25mm, IPC Medium Density)
simulation model R_Resistor_Default (Model Description)
signal-integrity model Resistor Model
pins: 1, 2

## 0008051621
designator R?, comment 1.6 kOhm, 125 mW
RES, size 0805, 1.6 kOhm, 1/8 W, 1%; Manufacturer: Vishay Dale; Manufacturer Part Number: CRCW08051K60FKEAC; Rated Power: 125 mW; Tolerance: +/-1%; Resistance: 1.6 kOhm; Supplier 1 URL: https://www.mouser.vn/ProductDetail/Vishay-Dale/CRCW08051K60FKEA?qs=1CkV0QOCgMpD4fa496FW%2FQ%3D%3D; Supplier 2 URL: https://www.digikey.com/en/products/detail/vishay-dale/CRCW08051K60FKEAC/7922561; Supplier 3 URL: N/A; Value: 1.6 kOhm; Packaging: Tape and Reel; Supplier 1: Mouser; Supplier 1 Part Number: 71-CRCW08051K60FKEA; Supplier 2: Digi-Key; Supplier 2 Part Number: 541-CRCW08051K60FKEACTR-ND; Supplier 3: thegioiic; Supplier 3 Part Number: OEM; ComponentLink1Description: Datasheet; ComponentLink1URL: https://www.vishay.com/docs/28773/crcwce3.pdf; Mount: SMD/SMT; Operating Temperature Max: + 85 C; Operating Temperature Min: - 40 C; Package / Case: 0805; LCSC Part #: N/A
footprint RES_0805 (Chip Resistor, 2-Leads, Body 2.05x1.25mm, IPC Medium Density)
simulation model R_Resistor_Default (Model Description)
signal-integrity model Resistor Model
pins: 1, 2

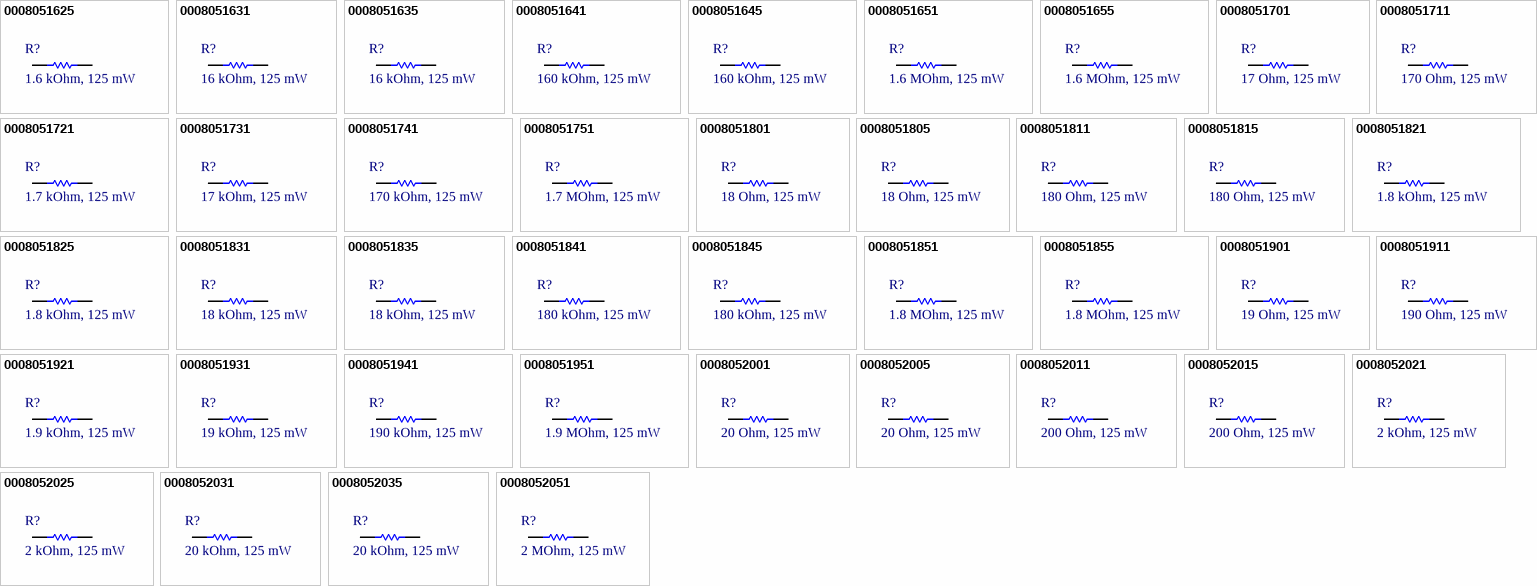
[diagram p2: symbols 0008051625 to 0008052051]

## 0008051625
designator R?, comment 1.6 kOhm, 125 mW
RES, size 0805, 1.6 kOhm, 1/8 W, 5%; Manufacturer: Vishay Dale; Manufacturer Part Number: CRCW08051K60JNEA; Rated Power: 125 mW; Tolerance: +/-5%; Resistance: 1.6 kOhm; Supplier 1 URL: https://www.mouser.vn/ProductDetail/Vishay-Dale/CRCW08051K60JNEA?qs=1CkV0QOCgMp9ti69jxGtDQ%3D%3D; Supplier 2 URL: https://www.digikey.com/en/products/detail/vishay-dale/CRCW08051K60JNEA/1175203; Supplier 3 URL: https://www.thegioiic.com/dien-tro-1-6-kohm-0805-5; Value: 1.6 kOhm; Packaging: Tape and Reel; Supplier 1: Mouser; Supplier 1 Part Number: 71-CRCW08051K60JNEA; Supplier 2: Digi-Key; Supplier 2 Part Number: 541-1.6KATR-ND; Supplier 3: thegioiic; Supplier 3 Part Number: OEM; ComponentLink1Description: Datasheet; ComponentLink1URL: https://www.vishay.com/docs/20035/dcrcwe3.pdf; Mount: SMD/SMT; Operating Temperature Max: + 85 C; Operating Temperature Min: - 40 C; Package / Case: 0805; LCSC Part #: N/A
footprint RES_0805 (Chip Resistor, 2-Leads, Body 2.05x1.25mm, IPC Medium Density)
simulation model R_Resistor_Default (Model Description)
signal-integrity model Resistor Model
pins: 1, 2

## 0008051631
designator R?, comment 16 kOhm, 125 mW
RES, size 0805, 16 kOhm, 1/8 W, 1%; Manufacturer: Vishay Dale; Manufacturer Part Number: CRCW080516K0FKEA; Rated Power: 125 mW; Resistance: 16 kOhm; Value: 16 kOhm; Tolerance: +/-1%; Supplier 1 URL: https://www.mouser.vn/ProductDetail/Vishay-Dale/CRCW080516K0FKEA?qs=2mNt4BZ3oPz8gFxKsC%252Bkpg%3D%3D; Supplier 2 URL: https://www.digikey.com/en/products/detail/vishay-dale/CRCW080516K0FKEA/1175772; Supplier 3 URL: N/A; Packaging: Tape and Reel; Supplier 1: Mouser; Supplier 1 Part Number: 71-CRCW080516K0FKEA; Supplier 2: Digi-Key; Supplier 2 Part Number: 541-16.0KCTR-ND; Supplier 3: thegioiic; Supplier 3 Part Number: OEM; ComponentLink1Description: Datasheet; ComponentLink1URL: https://www.vishay.com/docs/20035/dcrcwe3.pdf; Mount: SMD/SMT; Operating Temperature Max: + 85 C; Operating Temperature Min: - 40 C; Package / Case: 0805; LCSC Part #: N/A
footprint RES_0805 (Chip Resistor, 2-Leads, Body 2.05x1.25mm, IPC Medium Density)
simulation model R_Resistor_Default (Model Description)
signal-integrity model Resistor Model
pins: 1, 2

## 0008051635
designator R?, comment 16 kOhm, 125 mW
RES, size 0805, 16 kOhm, 1/8 W, 5%; Manufacturer: Vishay Dale; Manufacturer Part Number: CRCW080516K0JNEA; Rated Power: 125 mW; Resistance: 16 kOhm; Value: 16 kOhm; Tolerance: +/-5%; Supplier 1 URL: https://www.mouser.vn/ProductDetail/Vishay-Dale/CRCW080516K0JNEA?qs=2mNt4BZ3oPz0YxKgjgScdw%3D%3D; Supplier 2 URL: https://www.digikey.com/en/products/detail/vishay-dale/CRCW080516K0JNEA/1175227; Supplier 3 URL: https://www.thegioiic.com/dien-tro-16-kohm-0805-5; Packaging: Tape and Reel; Supplier 1: Mouser; Supplier 1 Part Number: 71-CRCW080516K0JNEA; Supplier 2: Digi-Key; Supplier 2 Part Number: 541-16KATR-ND; Supplier 3: thegioiic; Supplier 3 Part Number: OEM; ComponentLink1Description: Datasheet; ComponentLink1URL: https://www.vishay.com/docs/20035/dcrcwe3.pdf; Mount: SMD/SMT; Operating Temperature Max: + 85 C; Operating Temperature Min: - 40 C; Package / Case: 0805; LCSC Part #: N/A
footprint RES_0805 (Chip Resistor, 2-Leads, Body 2.05x1.25mm, IPC Medium Density)
simulation model R_Resistor_Default (Model Description)
signal-integrity model Resistor Model
pins: 1, 2

## 0008051641
designator R?, comment 160 kOhm, 125 mW
RES, size 0805, 160 kOhm, 1/8 W, 1%; Manufacturer: Vishay Dale; Manufacturer Part Number: CRCW0805160KFKEA; Rated Power: 125 mW; Tolerance: +/-1%; Resistance: 160 kOhm; Supplier 1 URL: https://www.mouser.vn/ProductDetail/Vishay-Dale/CRCW0805160KFKEA?qs=K41p2XksEyGudUKnUltmEw%3D%3D; Supplier 2 URL: https://www.digikey.com/en/products/detail/vishay-dale/CRCW0805160KFKEA/1175886; Supplier 3 URL: N/A; Value: 160 kOhm; Packaging: Tape and Reel; Supplier 1: Mouser; Supplier 1 Part Number: 71-CRCW0805160KFKEA; Supplier 2: Digi-Key; Supplier 2 Part Number: 541-160KCTR-ND; Supplier 3: thegioiic; Supplier 3 Part Number: OEM; ComponentLink1Description: Datasheet; ComponentLink1URL: https://www.vishay.com/docs/20035/dcrcwe3.pdf; Mount: SMD/SMT; Operating Temperature Max: + 85 C; Operating Temperature Min: - 40 C; Package / Case: 0805; LCSC Part #: N/A
footprint RES_0805 (Chip Resistor, 2-Leads, Body 2.05x1.25mm, IPC Medium Density)
simulation model R_Resistor_Default (Model Description)
signal-integrity model Resistor Model
pins: 1, 2

## 0008051645
designator R?, comment 160 kOhm, 125 mW
RES, size 0805, 160 kOhm, 1/8 W, 5%; Manufacturer: Vishay Dale; Manufacturer Part Number: CRCW0805160RJNEA; Rated Power: 125 mW; Tolerance: +/-5%; Resistance: 160 kOhm; Supplier 1 URL: https://www.mouser.vn/ProductDetail/Vishay-Dale/CRCW0805160KJNEA?qs=bMjB6bAaLENzV8duqa5ZYg%3D%3D; Supplier 2 URL: https://www.digikey.com/en/products/detail/vishay-dale/CRCW0805160RJNEA/1175179; Supplier 3 URL: https://www.thegioiic.com/dien-tro-160-kohm-0805-5; Value: 160 kOhm; Packaging: Tape and Reel; Supplier 1: Mouser; Supplier 1 Part Number: 71-CRCW0805160KJNEA; Supplier 2: Digi-Key; Supplier 2 Part Number: 541-160ATR-ND; Supplier 3: thegioiic; Supplier 3 Part Number: OEM; ComponentLink1Description: Datasheet; ComponentLink1URL: https://www.vishay.com/docs/20035/dcrcwe3.pdf; Mount: SMD/SMT; Operating Temperature Max: + 85 C; Operating Temperature Min: - 40 C; Package / Case: 0805; LCSC Part #: N/A
footprint RES_0805 (Chip Resistor, 2-Leads, Body 2.05x1.25mm, IPC Medium Density)
simulation model R_Resistor_Default (Model Description)
signal-integrity model Resistor Model
pins: 1, 2

## 0008051651
designator R?, comment 1.6 MOhm, 125 mW
RES, size 0805, 1.6 MOhm, 1/8 W, 1%; Manufacturer: Vishay Dale; Manufacturer Part Number: CRCW08051M60FKEA; Rated Power: 125 mW; Tolerance: +/-1%; Resistance: 1.6 MOhm; Supplier 1 URL: https://www.mouser.vn/ProductDetail/Vishay-Dale/CRCW08051M60FKEA?qs=uQdQW2oKfUW%2F4zUqScrJaQ%3D%3D; Supplier 2 URL: https://www.digikey.com/en/products/detail/vishay-dale/CRCW08051M60FKEA/1176037; Supplier 3 URL: N/A; Value: 1.6 MOhm; Packaging: Tape and Reel; Supplier 1: Mouser; Supplier 1 Part Number: 71-CRCW08051M60FKEA; Supplier 2: Digi-Key; Supplier 2 Part Number: 541-1.60MCTR-ND; Supplier 3: thegioiic; Supplier 3 Part Number: OEM; ComponentLink1Description: Datasheet; ComponentLink1URL: https://www.vishay.com/docs/20035/dcrcwe3.pdf; Mount: SMD/SMT; Operating Temperature Max: + 85 C; Operating Temperature Min: - 40 C; Package / Case: 0805; LCSC Part #: N/A
footprint RES_0805 (Chip Resistor, 2-Leads, Body 2.05x1.25mm, IPC Medium Density)
simulation model R_Resistor_Default (Model Description)
signal-integrity model Resistor Model
pins: 1, 2

## 0008051655
designator R?, comment 1.6 MOhm, 125 mW
RES, size 0805, 1.6 MOhm, 1/8 W, 5%; Manufacturer: Vishay Dale; Manufacturer Part Number: CRCW08051M60JNEA; Rated Power: 125 mW; Tolerance: +/-5%; Resistance: 1.6 MOhm; Supplier 1 URL: https://www.mouser.vn/ProductDetail/Vishay-Dale/CRCW08051M60JNEA?qs=1CkV0QOCgMp8tYAVVZEuMg%3D%3D; Supplier 2 URL: https://www.digikey.com/en/products/detail/vishay-dale/CRCW08051M60JNEA/1175275; Supplier 3 URL: https://www.thegioiic.com/dien-tro-1-6-mohm-0805-5; Value: 1.6 MOhm; Packaging: Tape and Reel; Supplier 1: Mouser; Supplier 1 Part Number: 71-CRCW08051M60JNEA; Supplier 2: Digi-Key; Supplier 2 Part Number: 541-1.6MATR-ND; Supplier 3: thegioiic; Supplier 3 Part Number: OEM; ComponentLink1Description: Datasheet; ComponentLink1URL: https://www.vishay.com/docs/20035/dcrcwe3.pdf; Mount: SMD/SMT; Operating Temperature Max: + 85 C; Operating Temperature Min: - 40 C; Package / Case: 0805; LCSC Part #: N/A
footprint RES_0805 (Chip Resistor, 2-Leads, Body 2.05x1.25mm, IPC Medium Density)
simulation model R_Resistor_Default (Model Description)
signal-integrity model Resistor Model
pins: 1, 2

## 0008051701
designator R?, comment 17 Ohm, 125 mW
RES, size 0805, 17 Ohm, 1/8 W, 1%; Manufacturer: Vishay Dale; Manufacturer Part Number: WSL0805R0100FEA; Rated Power: 125 mW; Resistance: 17 Ohm; Value: 17 Ohm; Tolerance: +/-1%; Supplier 1 URL: https://www.mouser.vn/ProductDetail/Vishay-Dale/CRCW080517R4FKTA?qs=oNEoSKgIPbHcFwc%252BHnSBwQ%3D%3D; Supplier 2 URL: https://www.digikey.com/en/products/detail/vishay-dale/WSL0805R0100FEA/712452; Supplier 3 URL: N/A; Packaging: Tape and Reel; Supplier 1: Mouser; Supplier 1 Part Number: 71-CRCW0805-17.4; Supplier 2: Digi-Key; Supplier 2 Part Number: WSLA-.01TR-ND; Supplier 3: thegioiic; Supplier 3 Part Number: OEM; ComponentLink1Description: Datasheet; ComponentLink1URL: https://www.vishay.com/docs/30100/wsl.pdf; Mount: SMD/SMT; Operating Temperature Max: + 85 C; Operating Temperature Min: - 40 C; Package / Case: 0805; LCSC Part #: N/A
footprint RES_0805 (Chip Resistor, 2-Leads, Body 2.05x1.25mm, IPC Medium Density)
simulation model R_Resistor_Default (Model Description)
signal-integrity model Resistor Model
pins: 1, 2